# Altium schematic symbol library CY2305SC.SchLib: 1 symbol
Pins are listed as number, name and electrical type; pins without a type are passive.

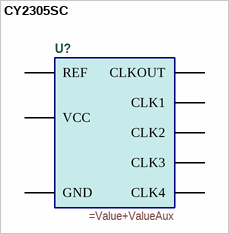
[diagram p0: symbol CY2305SC]

## CY2305SC
designator U?
=Description
pins: 1 REF, 2 CLK2, 3 CLK1, 4 GND, 5 CLK3, 6 VCC, 7 CLK4, 8 CLKOUT